# Altium integrated library TI Power Management Special Function.IntLib: 97 symbols (part 6 of 7)
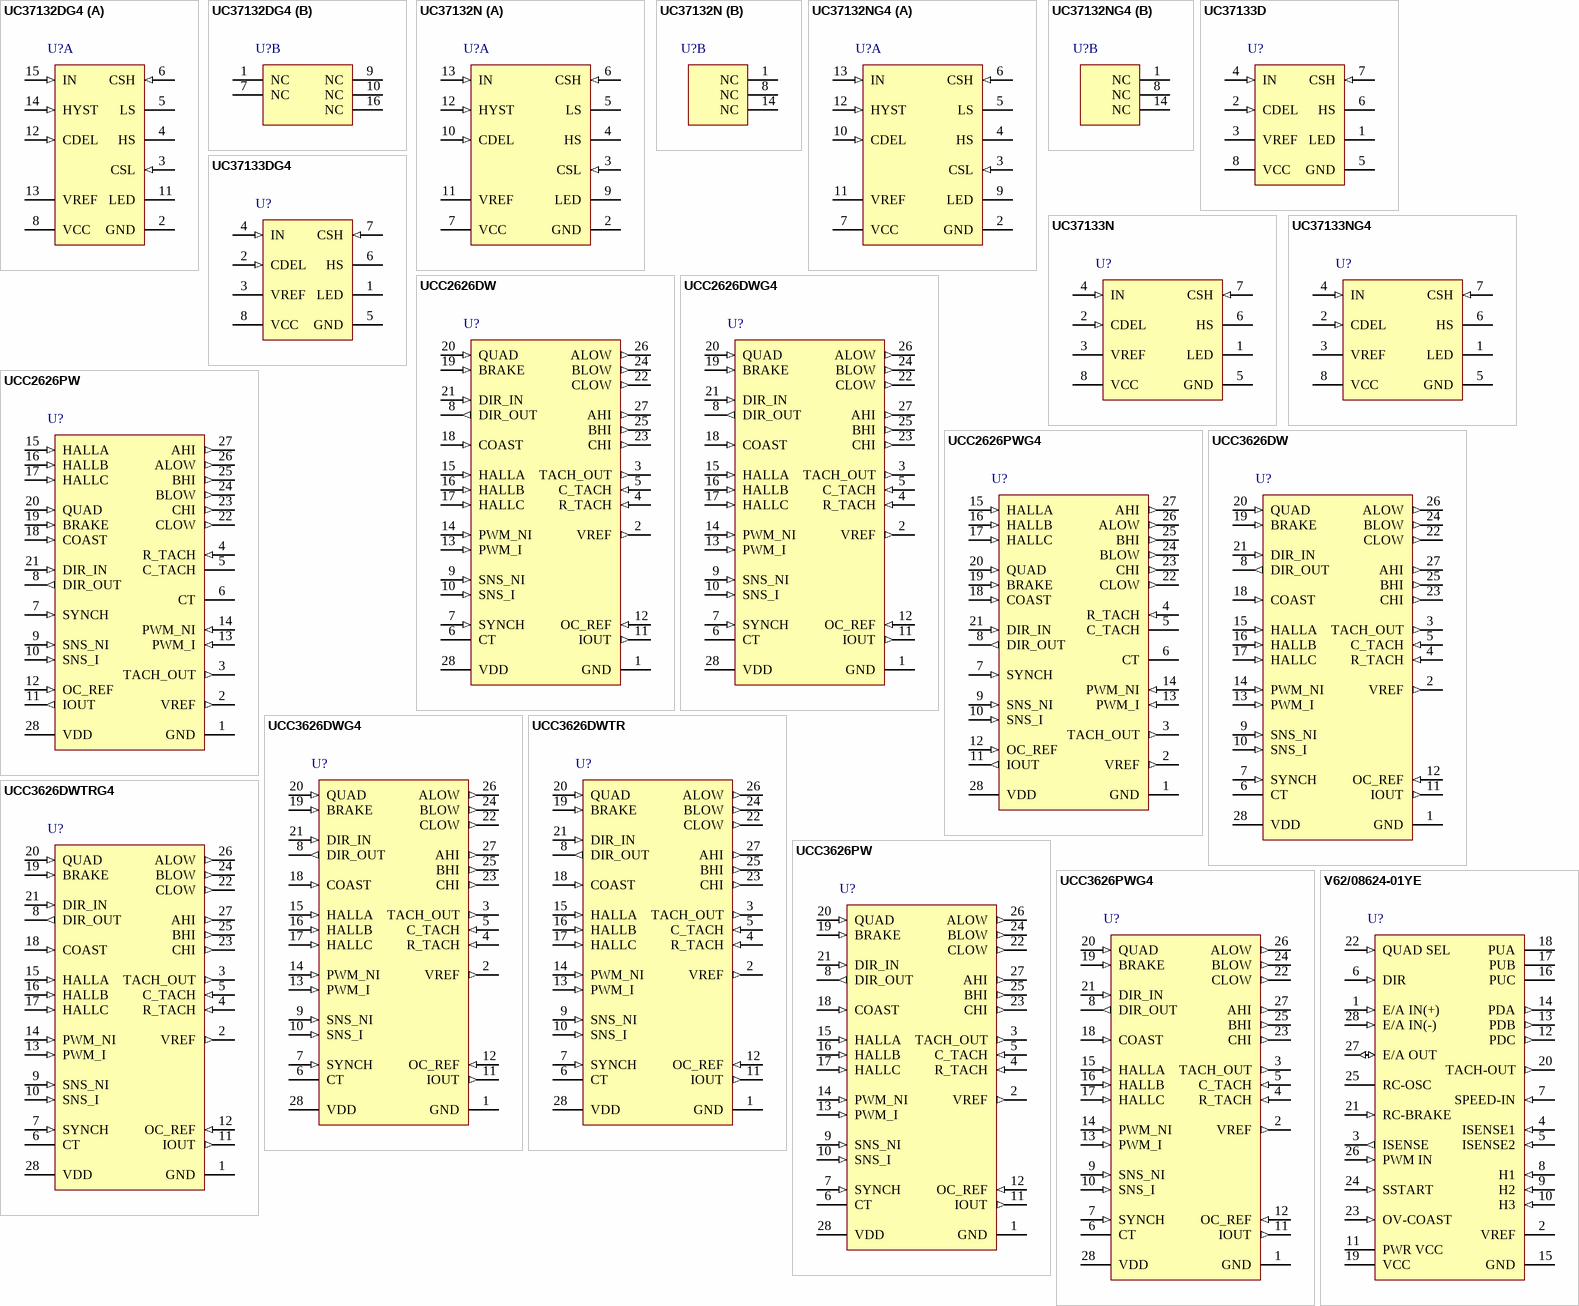
[diagram p8: symbols UC37132DG4 to V62/08624-01YE]

## UC37133N
designator U?
High Side Smart Power Switch, 8 to 65 V, 0.7 A Peak Output Current, 0 to 70 degC, 8-pin PDIP (P), Green (RoHS & no Sb/Br); Manufacturer: Texas Instruments; PartNumber: UC37133N; Fall Time(ns): 1000; Input Threshold: CMOS, TTL; No. of Outputs: 1; Peak Output Current(A): 0.7; Prop Delay(ns): 3000; Rating: Catalog; VCC(Max)(V): 65; VCC(Min)(V): 8; DatasheetVersion: SLUS340; PackageVersion: revE, Apr-2010; PackageReference: P8; PackageDescription: 8-Pin Plastic Dual-In-Line Package, Row Spacing 7.62 mm, Pitch 2.54 mm; Supplier 1: Digi-Key; Supplier Part Number 1: 296-11252-5-ND; Supplier 2: Newark; Supplier Part Number 2: 77C3207; Supplier 3: Mouser; Supplier Part Number 3: 595-UC37133N; Driver Configuration: High Side; Eco-Plan: Green (RoHS & no Sb/Br); Rise Time(ns): 1000; Mounting Technology: Through Hole; Code_JEDEC: MS-001-BA; ComponentLink1Description: Datasheet; ComponentLink1URL: http://www.ti.com/general/docs/lit/getliterature.tsp?genericPartNumber=UC37133&fileType=pdf
footprint P8 (DIP, 8-Leads, Row Spacing 7.62mm, Pitch 2.54mm, Body 9.6x6.4mm)
pins: 1 LED (oc) "Open collector output intended to drive an LED.This pin is driven low whenever the output is turned off and is externally pulled high when the output is turned on", 2 CDEL (in) "A capacitor connected to this pin is used to program both VCC pulse interruption time and power turn-on delay. The capacitor discharge time corresponds to VCC interruption and the charge time to VCC turn-on delay. The ratio (See Datasheet)", 3 VREF (power) "The 6V regulated reference capable of supplying up to 8mA. The recommended decoupling capacitor is 1nF.", 4 IN (in) "The input to the comparator that detects when the output transistor should be turned on. The input threshold is 3.0V (1/2 VREF) and the input voltage range is 0V to VREF.", 5 GND (power) "The reference point for the internal reference, all thresholds, and the return for the remainder of the device.", 6 HS (power) "The output of the switching transistor in the high side configuration. The emitter of the output transistor is the HS pin which is connected to the load. For the UC37132, the HS pin must be tied to the CSL pin in a low side (See Datasheet)", 7 CSH (in) "This high side current sense pin is used to program the current limit for high side applications by connecting a resistor between VCC and CSH. An over load current is detected when the voltage drop between VCC and CSH (See Datasheet)", 8 VCC (power) "The supply voltage for the chip. Decouple this pin with a good quality ceramic capacitor to ground."

## UC37133NG4
designator U?
High Side Smart Power Switch, 8 to 65 V, 0.7 A Peak Output Current, 0 to 70 degC, 8-pin PDIP (P), Green (RoHS & no Sb/Br); Manufacturer: Texas Instruments; PartNumber: UC37133NG4; Fall Time(ns): 1000; Input Threshold: CMOS, TTL; No. of Outputs: 1; Peak Output Current(A): 0.7; Prop Delay(ns): 3000; Rating: Catalog; VCC(Max)(V): 65; VCC(Min)(V): 8; DatasheetVersion: SLUS340; PackageVersion: revE, Apr-2010; PackageReference: P8; PackageDescription: 8-Pin Plastic Dual-In-Line Package, Row Spacing 7.62 mm, Pitch 2.54 mm; Supplier 1: Digi-Key; Supplier Part Number 1: UC37133NG4-ND; Supplier 2: Newark; Supplier Part Number 2: 81K4519; Supplier 3: Mouser; Supplier Part Number 3: 595-UC37133NG4; Driver Configuration: High Side; Eco-Plan: Green (RoHS & no Sb/Br); Rise Time(ns): 1000; Mounting Technology: Through Hole; Code_JEDEC: MS-001-BA; ComponentLink1Description: Datasheet; ComponentLink1URL: http://www.ti.com/general/docs/lit/getliterature.tsp?genericPartNumber=UC37133&fileType=pdf
footprint P8 (DIP, 8-Leads, Row Spacing 7.62mm, Pitch 2.54mm, Body 9.6x6.4mm)
pins: 1 LED (oc) "Open collector output intended to drive an LED.This pin is driven low whenever the output is turned off and is externally pulled high when the output is turned on", 2 CDEL (in) "A capacitor connected to this pin is used to program both VCC pulse interruption time and power turn-on delay. The capacitor discharge time corresponds to VCC interruption and the charge time to VCC turn-on delay. The ratio (See Datasheet)", 3 VREF (power) "The 6V regulated reference capable of supplying up to 8mA. The recommended decoupling capacitor is 1nF.", 4 IN (in) "The input to the comparator that detects when the output transistor should be turned on. The input threshold is 3.0V (1/2 VREF) and the input voltage range is 0V to VREF.", 5 GND (power) "The reference point for the internal reference, all thresholds, and the return for the remainder of the device.", 6 HS (power) "The output of the switching transistor in the high side configuration. The emitter of the output transistor is the HS pin which is connected to the load. For the UC37132, the HS pin must be tied to the CSL pin in a low side (See Datasheet)", 7 CSH (in) "This high side current sense pin is used to program the current limit for high side applications by connecting a resistor between VCC and CSH. An over load current is detected when the voltage drop between VCC and CSH (See Datasheet)", 8 VCC (power) "The supply voltage for the chip. Decouple this pin with a good quality ceramic capacitor to ground."

## UCC2626DW
designator U?
Brushless DC Motor Controller, 14.5 V Operating Supply, -40 to 85 degC, 28-pin SOIC (DW), Green (RoHS & no Sb/Br); Manufacturer: Texas Instruments; PartNumber: UCC2626DW; Brushless DC Motor Control: TRUE; Operating Supply Current(mA): 3; Operating Supply(Max)(V): 14.5; Operating Supply(Min)(V): 11; Peak Output Current(A): 0.1; SubFamily: Motion/Motor Control; DatasheetVersion: SLUS318B; PackageVersion: revG, Jan-2011; PackageReference: DW28; PackageDescription: 28-Pin Plastic Small Outline Integrated Circuit, 17.9 x 7.5 mm, Pitch 1.27 mm Pitch; Supplier 1: Digi-Key; Supplier Part Number 1: 296-34747-5-ND; Supplier 2: Newark; Supplier Part Number 2: 77C1958; Supplier 3: Mouser; Supplier Part Number 3: 595-UCC2626DW; Current-Limited: TRUE; Diff Curr Sense Amp: TRUE; Eco-Plan: Green (RoHS & no Sb/Br); Switching Control: TRUE; Tachometer: TRUE; Mounting Technology: Surface Mount; Code_JEDEC: MS-013-AE; ComponentLink1Description: Datasheet; ComponentLink1URL: http://www.ti.com/general/docs/lit/getliterature.tsp?genericPartNumber=UCC2626&fileType=pdf
footprint DW28_N (SOIC, 28-Leads, Body 17.9x7.5mm, Pitch 1.27mm, IPC Medium Density)
footprint DW28_L (SOIC, 28-Leads, Body 17.9x7.5mm, Pitch 1.27mm, IPC High Density)
footprint DW28_M (SOIC, 28-Leads, Body 17.9x7.5mm, Pitch 1.27mm, IPC Low Density)
pins: 1 GND (power) "GND is the reference ground for all functions of the part. Bypass and timing capacitors should be terminated as close as possible to this point.", 2 VREF (out) "VREF is a 5-V, 2% trimmed reference output with 5 mA of maximum available output current. This pin should be bypassed to ground with a ceramic capacitor with a value of at least 0.1 µF.", 3 TACH_OUT (out) "TACH_OUT is the output of a monostable triggered by a change in the commutation state, thus providing a variable duty cycle, frequency output. The on time of the monostable is set by the timing capacitor connected to C_TACH. (See Datasheet)", 4 R_TACH (in) "A resistor connected between R_TACH and ground programs the current for both the oscillator and tachometer.", 5 C_TACH (in) "A timing capacitor is connected between this pin and ground to set the width of the TACH_OUT pulse. The capacitor is charged with a current set by the resistor on pin R_TACH .", 6 CT "This pin is used in conjunction with the R_TACH pin to set the frequency of the oscillator. A timing capacitor is normally connected between this point and ground and is alternately charged and discharged between 2.5 V and 7.(See Datasheet)", 7 SYNCH (in) "The SYNCH input is used to synchronize the PWM oscillator with an external digital clock. When using the SYNCH feature, a resistor equal to R_TACH must be placed in parallel with CT. When not using the SYNCH feature, SYNCH (See Datasheet)", 8 DIR_OUT (out) "DIR_OUT represents the actual direction of the rotor as decoded from the HALLA, HALLB, and HALLC inputs. For any valid combination of HALLA, HALLB, and HALLC inputs there are two valid transitions; one of which translates to (See Datasheet)", 9 SNS_NI (in) "These inputs are the noninverting and inverting inputs to the current sense amplifier, respectively. The integrated amplifier is configured for a gain of five. An absolute value function is also incorporated into the output (See Datasheet)", 10 SNS_I (in) "These inputs are the noninverting and inverting inputs to the current sense amplifier, respectively. The integrated amplifier is configured for a gain of five. An absolute value function is also incorporated into the output (See Datasheet)", 11 IOUT (out) "IOUT represents the output of the current sense and absolute value amplifiers. The output signal appearing is a representation of the following expression: This output can be used to close a current control loop as well as (See Datasheet)", 12 OC_REF (in) "OC_REF is an analog input which sets the trip voltage of the overcurrent comparator. The sense input of the comparator is internally connected to the output of the current sense amplifier and absolute value circuit.", 13 PWM_I (in) "PWM_I is the inverting input to the PWM comparator.", 14 PWM_NI (in) "PWM_NI is the noninverting input to the PWM comparator.", 15 HALLA (in) "These three inputs are designed to accept rotor position information positioned 120degrees apart. For specific decode information reference Table I. These inputs should be externally pulled up to VREF or another appropriate (See Datasheet)", 16 HALLB (in) "These three inputs are designed to accept rotor position information positioned 120degrees apart. For specific decode information reference Table I. These inputs should be externally pulled up to VREF or another appropriate (See Datasheet)", 17 HALLC (in) "These three inputs are designed to accept rotor position information positioned 120degrees apart. For specific decode information reference Table I. These inputs should be externally pulled up to VREF or another appropriate (See Datasheet)", 18 COAST (in) "The COAST input consists of a hysteretic comparator which disables the outputs. The input is useful in implementing an overvoltage bus clamp in four-quadrant applications. The outputs are disabled when the input is above 1.(See Datasheet)", 19 BRAKE (in) "BRAKE is a digital input which causes the device to enter brake mode. In brake mode all three high-side outputs (AHI, BHI & CHI) are turned off, while all three lowside outputs (ALOW ,BLOW, CLOW) are turned on. During brake (See Datasheet)", 20 QUAD (in) "The QUAD input selects between two-quadrant operation (QUAD = 0) and four-quadrant operation (QUAD = 1) . When in two-quadrant mode, only the low-side devices are effected by the output of the PWM comparator. In (See Datasheet)", 21 DIR_IN (in) "DIR_IN is a digital input which determines the order in which the HALLA, HALLB, and HALLC inputs are decoded. For specific decode information reference Table I.", 22 CLOW (out) "Digital outputs used to control the low-side switches in a three-phase inverter. For specific decoding information reference Table I.", 23 CHI (out) "Digital outputs used to control the high-side switches in a three-phase inverter. For specific decoding information reference Table I.", 24 BLOW (out) "Digital outputs used to control the low-side switches in a three-phase inverter. For specific decoding information reference Table I.", 25 BHI (out) "Digital outputs used to control the high-side switches in a three-phase inverter. For specific decoding information reference Table I.", 26 ALOW (out) "Digital outputs used to control the low-side switches in a three-phase inverter. For specific decoding information reference Table I.", 27 AHI (out) "Digital outputs used to control the high-side switches in a three-phase inverter. For specific decoding information reference Table I.", 28 VDD (power) "VDD is the input supply connection for this device. Undervoltage lockout keeps the outputs off for inputs below 10.5 V. The input should be bypassed with a 0.1-µF ceramic capacitor, minimum."

## UCC2626DWG4
designator U?
Brushless DC Motor Controller, 14.5 V Operating Supply, -40 to 85 degC, 28-pin SOIC (DW), Green (RoHS & no Sb/Br); Manufacturer: Texas Instruments; PartNumber: UCC2626DWG4; Brushless DC Motor Control: TRUE; Operating Supply Current(mA): 3; Operating Supply(Max)(V): 14.5; Operating Supply(Min)(V): 11; Peak Output Current(A): 0.1; SubFamily: Motion/Motor Control; DatasheetVersion: SLUS318B; PackageVersion: revG, Jan-2011; PackageReference: DW28; PackageDescription: 28-Pin Plastic Small Outline Integrated Circuit, 17.9 x 7.5 mm, Pitch 1.27 mm Pitch; Supplier 1: Digi-Key; Supplier Part Number 1: UCC2626DWG4-ND; Supplier 2: Newark; Supplier Part Number 2: 54K1966; Supplier 3: Mouser; Supplier Part Number 3: 595-UCC2626DWG4; Current-Limited: TRUE; Diff Curr Sense Amp: TRUE; Eco-Plan: Green (RoHS & no Sb/Br); Switching Control: TRUE; Tachometer: TRUE; Mounting Technology: Surface Mount; Code_JEDEC: MS-013-AE; ComponentLink1Description: Datasheet; ComponentLink1URL: http://www.ti.com/general/docs/lit/getliterature.tsp?genericPartNumber=UCC2626&fileType=pdf
footprint DW28_N (SOIC, 28-Leads, Body 17.9x7.5mm, Pitch 1.27mm, IPC Medium Density)
footprint DW28_L (SOIC, 28-Leads, Body 17.9x7.5mm, Pitch 1.27mm, IPC High Density)
footprint DW28_M (SOIC, 28-Leads, Body 17.9x7.5mm, Pitch 1.27mm, IPC Low Density)
pins: 1 GND (power) "GND is the reference ground for all functions of the part. Bypass and timing capacitors should be terminated as close as possible to this point.", 2 VREF (out) "VREF is a 5-V, 2% trimmed reference output with 5 mA of maximum available output current. This pin should be bypassed to ground with a ceramic capacitor with a value of at least 0.1 µF.", 3 TACH_OUT (out) "TACH_OUT is the output of a monostable triggered by a change in the commutation state, thus providing a variable duty cycle, frequency output. The on time of the monostable is set by the timing capacitor connected to C_TACH. (See Datasheet)", 4 R_TACH (in) "A resistor connected between R_TACH and ground programs the current for both the oscillator and tachometer.", 5 C_TACH (in) "A timing capacitor is connected between this pin and ground to set the width of the TACH_OUT pulse. The capacitor is charged with a current set by the resistor on pin R_TACH .", 6 CT "This pin is used in conjunction with the R_TACH pin to set the frequency of the oscillator. A timing capacitor is normally connected between this point and ground and is alternately charged and discharged between 2.5 V and 7.(See Datasheet)", 7 SYNCH (in) "The SYNCH input is used to synchronize the PWM oscillator with an external digital clock. When using the SYNCH feature, a resistor equal to R_TACH must be placed in parallel with CT. When not using the SYNCH feature, SYNCH (See Datasheet)", 8 DIR_OUT (out) "DIR_OUT represents the actual direction of the rotor as decoded from the HALLA, HALLB, and HALLC inputs. For any valid combination of HALLA, HALLB, and HALLC inputs there are two valid transitions; one of which translates to (See Datasheet)", 9 SNS_NI (in) "These inputs are the noninverting and inverting inputs to the current sense amplifier, respectively. The integrated amplifier is configured for a gain of five. An absolute value function is also incorporated into the output (See Datasheet)", 10 SNS_I (in) "These inputs are the noninverting and inverting inputs to the current sense amplifier, respectively. The integrated amplifier is configured for a gain of five. An absolute value function is also incorporated into the output (See Datasheet)", 11 IOUT (out) "IOUT represents the output of the current sense and absolute value amplifiers. The output signal appearing is a representation of the following expression: This output can be used to close a current control loop as well as (See Datasheet)", 12 OC_REF (in) "OC_REF is an analog input which sets the trip voltage of the overcurrent comparator. The sense input of the comparator is internally connected to the output of the current sense amplifier and absolute value circuit.", 13 PWM_I (in) "PWM_I is the inverting input to the PWM comparator.", 14 PWM_NI (in) "PWM_NI is the noninverting input to the PWM comparator.", 15 HALLA (in) "These three inputs are designed to accept rotor position information positioned 120degrees apart. For specific decode information reference Table I. These inputs should be externally pulled up to VREF or another appropriate (See Datasheet)", 16 HALLB (in) "These three inputs are designed to accept rotor position information positioned 120degrees apart. For specific decode information reference Table I. These inputs should be externally pulled up to VREF or another appropriate (See Datasheet)", 17 HALLC (in) "These three inputs are designed to accept rotor position information positioned 120degrees apart. For specific decode information reference Table I. These inputs should be externally pulled up to VREF or another appropriate (See Datasheet)", 18 COAST (in) "The COAST input consists of a hysteretic comparator which disables the outputs. The input is useful in implementing an overvoltage bus clamp in four-quadrant applications. The outputs are disabled when the input is above 1.(See Datasheet)", 19 BRAKE (in) "BRAKE is a digital input which causes the device to enter brake mode. In brake mode all three high-side outputs (AHI, BHI & CHI) are turned off, while all three lowside outputs (ALOW ,BLOW, CLOW) are turned on. During brake (See Datasheet)", 20 QUAD (in) "The QUAD input selects between two-quadrant operation (QUAD = 0) and four-quadrant operation (QUAD = 1) . When in two-quadrant mode, only the low-side devices are effected by the output of the PWM comparator. In (See Datasheet)", 21 DIR_IN (in) "DIR_IN is a digital input which determines the order in which the HALLA, HALLB, and HALLC inputs are decoded. For specific decode information reference Table I.", 22 CLOW (out) "Digital outputs used to control the low-side switches in a three-phase inverter. For specific decoding information reference Table I.", 23 CHI (out) "Digital outputs used to control the high-side switches in a three-phase inverter. For specific decoding information reference Table I.", 24 BLOW (out) "Digital outputs used to control the low-side switches in a three-phase inverter. For specific decoding information reference Table I.", 25 BHI (out) "Digital outputs used to control the high-side switches in a three-phase inverter. For specific decoding information reference Table I.", 26 ALOW (out) "Digital outputs used to control the low-side switches in a three-phase inverter. For specific decoding information reference Table I.", 27 AHI (out) "Digital outputs used to control the high-side switches in a three-phase inverter. For specific decoding information reference Table I.", 28 VDD (power) "VDD is the input supply connection for this device. Undervoltage lockout keeps the outputs off for inputs below 10.5 V. The input should be bypassed with a 0.1-µF ceramic capacitor, minimum."

## UCC2626PW
designator U?
Brushless DC Motor Controller, 14.5 V Operating Supply, -40 to 85 degC, 28-pin TSSOP (PW), Green (RoHS & no Sb/Br); Manufacturer: Texas Instruments; PartNumber: UCC2626PW; Brushless DC Motor Control: TRUE; Operating Supply Current(mA): 3; Operating Supply(Max)(V): 14.5; Operating Supply(Min)(V): 11; Peak Output Current(A): 0.1; SubFamily: Motion/Motor Control; DatasheetVersion: SLUS318B; PackageVersion: revG, Feb-2011; PackageReference: PW28; PackageDescription: 28-Pin Plastic Thin Small Outline Package 9.7 x 4.4 mm Body ,0.65 mm Pitch; Supplier 1: Digi-Key; Supplier Part Number 1: 296-34748-5-ND; Supplier 2: Newark; Supplier Part Number 2: 77C1960; Supplier 3: Mouser; Supplier Part Number 3: 595-UCC2626PW; Current-Limited: TRUE; Diff Curr Sense Amp: TRUE; Eco-Plan: Green (RoHS & no Sb/Br); Switching Control: TRUE; Tachometer: TRUE; Mounting Technology: Surface Mount; Code_JEDEC: MO-153; ComponentLink1Description: Datasheet; ComponentLink1URL: http://www.ti.com/general/docs/lit/getliterature.tsp?genericPartNumber=UCC2626&fileType=pdf
footprint PW28_N (TSOP, 28-Leads, Body 9.7x4.4mm, Pitch 0.65mm, IPC Medium Density)
footprint PW28_L (TSOP, 28-Leads, Body 9.7x4.4mm, Pitch 0.65mm, IPC High Density)
footprint PW28_M (TSOP, 28-Leads, Body 9.7x4.4mm, Pitch 0.65mm, IPC Low Density)
pins: 1 GND (power) "GND is the reference ground for all functions of the part. Bypass and timing capacitors should be terminated as close as possible to this point.", 2 VREF (out) "VREF is a 5-V, 2% trimmed reference output with 5 mA of maximum available output current. This pin should be bypassed to ground with a ceramic capacitor with a value of at least 0.1 uF.", 3 TACH_OUT (out) "TACH_OUT is the output of a monostable triggered by a change in the commutation state, thus providing a variable duty cycle, frequency output. The on time of the monostable is set by the timing capacitor connected to C_TACH. (See Datasheet)", 4 R_TACH (in) "A resistor connected between R_TACH and ground programs the current for both the oscillator and tachometer.", 5 C_TACH "A timing capacitor is connected between this pin and ground to set the width of the TACH_OUT pulse. The capacitor is charged with a current set by the resistor on pin R_TACH .", 6 CT "This pin is used in conjunction with the R_TACH pin to set the frequency of the oscillator. A timing capacitor is normally connected between this point and ground and is alternately charged and discharged between 2.5 V and 7.(See Datasheet)", 7 SYNCH (in) "The SYNCH input is used to synchronize the PWM oscillator with an external digital clock. When using the SYNCH feature, a resistor equal to R_TACH must be placed in parallel with CT. When not using the SYNCH feature, SYNCH (See Datasheet)", 8 DIR_OUT (out) "DIR_OUT represents the actual direction of the rotor as decoded from the HALLA, HALLB, and HALLC inputs. For any valid combination of HALLA, HALLB, and HALLC inputs there are two valid transitions; one of which translates to (See Datasheet)", 9 SNS_NI (in) "These input are the noninverting and inverting inputs to the current sense amplifier, respectively. The integrated amplifier is configured for a gain of five. An absolute value function is also incorporated into the output (See Datasheet)", 10 SNS_I (in) "These input are the noninverting and inverting inputs to the current sense amplifier, respectively. The integrated amplifier is configured for a gain of five. An absolute value function is also incorporated into the output (See Datasheet)", 11 IOUT (out) "IOUT represents the output of the current sense and absolute value amplifiers. The output signal appearing is a representation of the following expression: IOUT=ABS(ISNS_I-ISNS_NI)*5 This output can be used to close a (See Datasheet)", 12 OC_REF (in) "OC_REF is an analog input which sets the trip voltage of the overcurrent comparator. The sense input of the comparator is internally connected to the output of the current sense amplifier and absolute value circuit.", 13 PWM_I (in) "PWM_I is the inverting input to the PWM comparator.", 14 PWM_NI (in) "PWM_NI is the noninverting input to the PWM comparator.", 15 HALLA (in) "These three input are designed to accept rotor position information positioned 120degrees apart. For specific decode information reference Table I. These inputs should be externally pulled up to VREF or another appropriate (See Datasheet)", 16 HALLB (in) "These three input are designed to accept rotor position information positioned 120degrees apart. For specific decode information reference Table I. These inputs should be externally pulled up to VREF or another appropriate (See Datasheet)", 17 HALLC (in) "These three input are designed to accept rotor position information positioned 120degrees apart. For specific decode information reference Table I. These inputs should be externally pulled up to VREF or another appropriate (See Datasheet)", 18 COAST (in) "The COAST input consists of a hysteretic comparator which disables the outputs. The input is useful in implementing an overvoltage bus clamp in four-quadrant applications. The outputs are disabled when the input is above 1.(See Datasheet)", 19 BRAKE (in) "BRAKE is a digital input which causes the device to enter brake mode. In brake mode all three highside outputs (AHI, BHI & CHI) are turned off, while all three lowside outputs (ALOW, BLOW, CLOW) are turned on. During brake (See Datasheet)", 20 QUAD (in) "The QUAD input selects between two-quadrant operation (QUAD = 0) and four-quadrant operation (QUAD = 1) . When in two-quadrant mode, only the low-side devices are effected by the output of the PWM comparator. In (See Datasheet)", 21 DIR_IN (in) "DIR_IN is a digital input which determines the order in which the HALLA, HALLB, and HALLC inputs are decoded. For specific decode information reference Table I.", 22 CLOW (out) "Digital output used to control the low-side switches in a three-phase inverter. For specific decoding information reference Table I.", 23 CHI (out) "Digital output used to control the high-side switches in a three-phase inverter. For specific decoding information reference Table I.", 24 BLOW (out) "Digital output used to control the low-side switches in a three-phase inverter. For specific decoding information reference Table I.", 25 BHI (out) "Digital output used to control the high-side switches in a three-phase inverter. For specific decoding information reference Table I.", 26 ALOW (out) "Digital output used to control the low-side switches in a three-phase inverter. For specific decoding information reference Table I.", 27 AHI (out) "Digital output used to control the high-side switches in a three-phase inverter. For specific decoding information reference Table I.", 28 VDD (power) "VDD is the input supply connection for this device. Undervoltage lockout keeps the outputs off for inputs below 10.5 V. The input should be bypassed with a 0.1-uF ceramic capacitor, minimum."

## UCC2626PWG4
designator U?
Brushless DC Motor Controller, 14.5 V Operating Supply, -40 to 85 degC, 28-pin TSSOP (PW), Green (RoHS & no Sb/Br); Manufacturer: Texas Instruments; PartNumber: UCC2626PWG4; Brushless DC Motor Control: TRUE; Operating Supply Current(mA): 3; Operating Supply(Max)(V): 14.5; Operating Supply(Min)(V): 11; Peak Output Current(A): 0.1; SubFamily: Motion/Motor Control; DatasheetVersion: SLUS318B; PackageVersion: revG, Feb-2011; PackageReference: PW28; PackageDescription: 28-Pin Plastic Thin Small Outline Package 9.7 x 4.4 mm Body ,0.65 mm Pitch; Supplier 1: Digi-Key; Supplier Part Number 1: UCC2626PWG4-ND; Supplier 2: Newark; Supplier Part Number 2: 70K5861; Supplier 3: Mouser; Supplier Part Number 3: 595-UCC2626PWG4; Current-Limited: TRUE; Diff Curr Sense Amp: TRUE; Eco-Plan: Green (RoHS & no Sb/Br); Switching Control: TRUE; Tachometer: TRUE; Mounting Technology: Surface Mount; Code_JEDEC: MO-153; ComponentLink1Description: Datasheet; ComponentLink1URL: http://www.ti.com/general/docs/lit/getliterature.tsp?genericPartNumber=UCC2626&fileType=pdf
footprint PW28_N (TSOP, 28-Leads, Body 9.7x4.4mm, Pitch 0.65mm, IPC Medium Density)
footprint PW28_L (TSOP, 28-Leads, Body 9.7x4.4mm, Pitch 0.65mm, IPC High Density)
footprint PW28_M (TSOP, 28-Leads, Body 9.7x4.4mm, Pitch 0.65mm, IPC Low Density)
pins: 1 GND (power) "GND is the reference ground for all functions of the part. Bypass and timing capacitors should be terminated as close as possible to this point.", 2 VREF (out) "VREF is a 5-V, 2% trimmed reference output with 5 mA of maximum available output current. This pin should be bypassed to ground with a ceramic capacitor with a value of at least 0.1 uF.", 3 TACH_OUT (out) "TACH_OUT is the output of a monostable triggered by a change in the commutation state, thus providing a variable duty cycle, frequency output. The on time of the monostable is set by the timing capacitor connected to C_TACH. (See Datasheet)", 4 R_TACH (in) "A resistor connected between R_TACH and ground programs the current for both the oscillator and tachometer.", 5 C_TACH "A timing capacitor is connected between this pin and ground to set the width of the TACH_OUT pulse. The capacitor is charged with a current set by the resistor on pin R_TACH .", 6 CT "This pin is used in conjunction with the R_TACH pin to set the frequency of the oscillator. A timing capacitor is normally connected between this point and ground and is alternately charged and discharged between 2.5 V and 7.(See Datasheet)", 7 SYNCH (in) "The SYNCH input is used to synchronize the PWM oscillator with an external digital clock. When using the SYNCH feature, a resistor equal to R_TACH must be placed in parallel with CT. When not using the SYNCH feature, SYNCH (See Datasheet)", 8 DIR_OUT (out) "DIR_OUT represents the actual direction of the rotor as decoded from the HALLA, HALLB, and HALLC inputs. For any valid combination of HALLA, HALLB, and HALLC inputs there are two valid transitions; one of which translates to (See Datasheet)", 9 SNS_NI (in) "These input are the noninverting and inverting inputs to the current sense amplifier, respectively. The integrated amplifier is configured for a gain of five. An absolute value function is also incorporated into the output (See Datasheet)", 10 SNS_I (in) "These input are the noninverting and inverting inputs to the current sense amplifier, respectively. The integrated amplifier is configured for a gain of five. An absolute value function is also incorporated into the output (See Datasheet)", 11 IOUT (out) "IOUT represents the output of the current sense and absolute value amplifiers. The output signal appearing is a representation of the following expression: IOUT=ABS(ISNS_I-ISNS_NI)*5 This output can be used to close a (See Datasheet)", 12 OC_REF (in) "OC_REF is an analog input which sets the trip voltage of the overcurrent comparator. The sense input of the comparator is internally connected to the output of the current sense amplifier and absolute value circuit.", 13 PWM_I (in) "PWM_I is the inverting input to the PWM comparator.", 14 PWM_NI (in) "PWM_NI is the noninverting input to the PWM comparator.", 15 HALLA (in) "These three input are designed to accept rotor position information positioned 120degrees apart. For specific decode information reference Table I. These inputs should be externally pulled up to VREF or another appropriate (See Datasheet)", 16 HALLB (in) "These three input are designed to accept rotor position information positioned 120degrees apart. For specific decode information reference Table I. These inputs should be externally pulled up to VREF or another appropriate (See Datasheet)", 17 HALLC (in) "These three input are designed to accept rotor position information positioned 120degrees apart. For specific decode information reference Table I. These inputs should be externally pulled up to VREF or another appropriate (See Datasheet)", 18 COAST (in) "The COAST input consists of a hysteretic comparator which disables the outputs. The input is useful in implementing an overvoltage bus clamp in four-quadrant applications. The outputs are disabled when the input is above 1.(See Datasheet)", 19 BRAKE (in) "BRAKE is a digital input which causes the device to enter brake mode. In brake mode all three highside outputs (AHI, BHI & CHI) are turned off, while all three lowside outputs (ALOW, BLOW, CLOW) are turned on. During brake (See Datasheet)", 20 QUAD (in) "The QUAD input selects between two-quadrant operation (QUAD = 0) and four-quadrant operation (QUAD = 1) . When in two-quadrant mode, only the low-side devices are effected by the output of the PWM comparator. In (See Datasheet)", 21 DIR_IN (in) "DIR_IN is a digital input which determines the order in which the HALLA, HALLB, and HALLC inputs are decoded. For specific decode information reference Table I.", 22 CLOW (out) "Digital output used to control the low-side switches in a three-phase inverter. For specific decoding information reference Table I.", 23 CHI (out) "Digital output used to control the high-side switches in a three-phase inverter. For specific decoding information reference Table I.", 24 BLOW (out) "Digital output used to control the low-side switches in a three-phase inverter. For specific decoding information reference Table I.", 25 BHI (out) "Digital output used to control the high-side switches in a three-phase inverter. For specific decoding information reference Table I.", 26 ALOW (out) "Digital output used to control the low-side switches in a three-phase inverter. For specific decoding information reference Table I.", 27 AHI (out) "Digital output used to control the high-side switches in a three-phase inverter. For specific decoding information reference Table I.", 28 VDD (power) "VDD is the input supply connection for this device. Undervoltage lockout keeps the outputs off for inputs below 10.5 V. The input should be bypassed with a 0.1-uF ceramic capacitor, minimum."

## UCC3626DW
designator U?
Brushless DC Motor Controller, 14.5 V Operating Supply, 0 to 70 degC, 28-pin SOIC (DW), Green (RoHS & no Sb/Br); Manufacturer: Texas Instruments; PartNumber: UCC3626DW; Brushless DC Motor Control: TRUE; Operating Supply Current(mA): 3; Operating Supply(Max)(V): 14.5; Operating Supply(Min)(V): 11; Peak Output Current(A): 0.1; SubFamily: Motion/Motor Control; DatasheetVersion: SLUS318B; PackageVersion: revG, Jan-2011; PackageReference: DW28; PackageDescription: 28-Pin Plastic Small Outline Integrated Circuit, 17.9 x 7.5 mm, Pitch 1.27 mm Pitch; Supplier 1: Digi-Key; Supplier Part Number 1: 296-11452-5-ND; Supplier 2: Newark; Supplier Part Number 2: 77C2307; Supplier 3: Mouser; Supplier Part Number 3: 595-UCC3626DW; Current-Limited: TRUE; Diff Curr Sense Amp: TRUE; Eco-Plan: Green (RoHS & no Sb/Br); Switching Control: TRUE; Tachometer: TRUE; Mounting Technology: Surface Mount; Code_JEDEC: MS-013-AE; ComponentLink1Description: Datasheet; ComponentLink1URL: http://www.ti.com/general/docs/lit/getliterature.tsp?genericPartNumber=UCC3626&fileType=pdf
footprint DW28_N (SOIC, 28-Leads, Body 17.9x7.5mm, Pitch 1.27mm, IPC Medium Density)
footprint DW28_L (SOIC, 28-Leads, Body 17.9x7.5mm, Pitch 1.27mm, IPC High Density)
footprint DW28_M (SOIC, 28-Leads, Body 17.9x7.5mm, Pitch 1.27mm, IPC Low Density)
pins: 1 GND (power) "GND is the reference ground for all functions of the part. Bypass and timing capacitors should be terminated as close as possible to this point.", 2 VREF (out) "VREF is a 5-V, 2% trimmed reference output with 5 mA of maximum available output current. This pin should be bypassed to ground with a ceramic capacitor with a value of at least 0.1 µF.", 3 TACH_OUT (out) "TACH_OUT is the output of a monostable triggered by a change in the commutation state, thus providing a variable duty cycle, frequency output. The on time of the monostable is set by the timing capacitor connected to C_TACH. (See Datasheet)", 4 R_TACH (in) "A resistor connected between R_TACH and ground programs the current for both the oscillator and tachometer.", 5 C_TACH (in) "A timing capacitor is connected between this pin and ground to set the width of the TACH_OUT pulse. The capacitor is charged with a current set by the resistor on pin R_TACH .", 6 CT "This pin is used in conjunction with the R_TACH pin to set the frequency of the oscillator. A timing capacitor is normally connected between this point and ground and is alternately charged and discharged between 2.5 V and 7.(See Datasheet)", 7 SYNCH (in) "The SYNCH input is used to synchronize the PWM oscillator with an external digital clock. When using the SYNCH feature, a resistor equal to R_TACH must be placed in parallel with CT. When not using the SYNCH feature, SYNCH (See Datasheet)", 8 DIR_OUT (out) "DIR_OUT represents the actual direction of the rotor as decoded from the HALLA, HALLB, and HALLC inputs. For any valid combination of HALLA, HALLB, and HALLC inputs there are two valid transitions; one of which translates to (See Datasheet)", 9 SNS_NI (in) "These inputs are the noninverting and inverting inputs to the current sense amplifier, respectively. The integrated amplifier is configured for a gain of five. An absolute value function is also incorporated into the output (See Datasheet)", 10 SNS_I (in) "These inputs are the noninverting and inverting inputs to the current sense amplifier, respectively. The integrated amplifier is configured for a gain of five. An absolute value function is also incorporated into the output (See Datasheet)", 11 IOUT (out) "IOUT represents the output of the current sense and absolute value amplifiers. The output signal appearing is a representation of the following expression: This output can be used to close a current control loop as well as (See Datasheet)", 12 OC_REF (in) "OC_REF is an analog input which sets the trip voltage of the overcurrent comparator. The sense input of the comparator is internally connected to the output of the current sense amplifier and absolute value circuit.", 13 PWM_I (in) "PWM_I is the inverting input to the PWM comparator.", 14 PWM_NI (in) "PWM_NI is the noninverting input to the PWM comparator.", 15 HALLA (in) "These three inputs are designed to accept rotor position information positioned 120degrees apart. For specific decode information reference Table I. These inputs should be externally pulled up to VREF or another appropriate (See Datasheet)", 16 HALLB (in) "These three inputs are designed to accept rotor position information positioned 120degrees apart. For specific decode information reference Table I. These inputs should be externally pulled up to VREF or another appropriate (See Datasheet)", 17 HALLC (in) "These three inputs are designed to accept rotor position information positioned 120degrees apart. For specific decode information reference Table I. These inputs should be externally pulled up to VREF or another appropriate (See Datasheet)", 18 COAST (in) "The COAST input consists of a hysteretic comparator which disables the outputs. The input is useful in implementing an overvoltage bus clamp in four-quadrant applications. The outputs are disabled when the input is above 1.(See Datasheet)", 19 BRAKE (in) "BRAKE is a digital input which causes the device to enter brake mode. In brake mode all three high-side outputs (AHI, BHI & CHI) are turned off, while all three lowside outputs (ALOW ,BLOW, CLOW) are turned on. During brake (See Datasheet)", 20 QUAD (in) "The QUAD input selects between two-quadrant operation (QUAD = 0) and four-quadrant operation (QUAD = 1) . When in two-quadrant mode, only the low-side devices are effected by the output of the PWM comparator. In (See Datasheet)", 21 DIR_IN (in) "DIR_IN is a digital input which determines the order in which the HALLA, HALLB, and HALLC inputs are decoded. For specific decode information reference Table I.", 22 CLOW (out) "Digital outputs used to control the low-side switches in a three-phase inverter. For specific decoding information reference Table I.", 23 CHI (out) "Digital outputs used to control the high-side switches in a three-phase inverter. For specific decoding information reference Table I.", 24 BLOW (out) "Digital outputs used to control the low-side switches in a three-phase inverter. For specific decoding information reference Table I.", 25 BHI (out) "Digital outputs used to control the high-side switches in a three-phase inverter. For specific decoding information reference Table I.", 26 ALOW (out) "Digital outputs used to control the low-side switches in a three-phase inverter. For specific decoding information reference Table I.", 27 AHI (out) "Digital outputs used to control the high-side switches in a three-phase inverter. For specific decoding information reference Table I.", 28 VDD (power) "VDD is the input supply connection for this device. Undervoltage lockout keeps the outputs off for inputs below 10.5 V. The input should be bypassed with a 0.1-µF ceramic capacitor, minimum."

## UCC3626DWG4
designator U?
Brushless DC Motor Controller, 14.5 V Operating Supply, 0 to 70 degC, 28-pin SOIC (DW), Green (RoHS & no Sb/Br); Manufacturer: Texas Instruments; PartNumber: UCC3626DWG4; Brushless DC Motor Control: TRUE; Operating Supply Current(mA): 3; Operating Supply(Max)(V): 14.5; Operating Supply(Min)(V): 11; Peak Output Current(A): 0.1; SubFamily: Motion/Motor Control; DatasheetVersion: SLUS318B; PackageVersion: revG, Jan-2011; PackageReference: DW28; PackageDescription: 28-Pin Plastic Small Outline Integrated Circuit, 17.9 x 7.5 mm, Pitch 1.27 mm Pitch; Supplier 1: Digi-Key; Supplier Part Number 1: UCC3626DWG4-ND; Supplier 2: Newark; Supplier Part Number 2: 34M0252; Supplier 3: Mouser; Supplier Part Number 3: 595-UCC3626DWG4; Current-Limited: TRUE; Diff Curr Sense Amp: TRUE; Eco-Plan: Green (RoHS & no Sb/Br); Switching Control: TRUE; Tachometer: TRUE; Mounting Technology: Surface Mount; Code_JEDEC: MS-013-AE; ComponentLink1Description: Datasheet; ComponentLink1URL: http://www.ti.com/general/docs/lit/getliterature.tsp?genericPartNumber=UCC3626&fileType=pdf
footprint DW28_N (SOIC, 28-Leads, Body 17.9x7.5mm, Pitch 1.27mm, IPC Medium Density)
footprint DW28_L (SOIC, 28-Leads, Body 17.9x7.5mm, Pitch 1.27mm, IPC High Density)
footprint DW28_M (SOIC, 28-Leads, Body 17.9x7.5mm, Pitch 1.27mm, IPC Low Density)
pins: 1 GND (power) "GND is the reference ground for all functions of the part. Bypass and timing capacitors should be terminated as close as possible to this point.", 2 VREF (out) "VREF is a 5-V, 2% trimmed reference output with 5 mA of maximum available output current. This pin should be bypassed to ground with a ceramic capacitor with a value of at least 0.1 µF.", 3 TACH_OUT (out) "TACH_OUT is the output of a monostable triggered by a change in the commutation state, thus providing a variable duty cycle, frequency output. The on time of the monostable is set by the timing capacitor connected to C_TACH. (See Datasheet)", 4 R_TACH (in) "A resistor connected between R_TACH and ground programs the current for both the oscillator and tachometer.", 5 C_TACH (in) "A timing capacitor is connected between this pin and ground to set the width of the TACH_OUT pulse. The capacitor is charged with a current set by the resistor on pin R_TACH .", 6 CT "This pin is used in conjunction with the R_TACH pin to set the frequency of the oscillator. A timing capacitor is normally connected between this point and ground and is alternately charged and discharged between 2.5 V and 7.(See Datasheet)", 7 SYNCH (in) "The SYNCH input is used to synchronize the PWM oscillator with an external digital clock. When using the SYNCH feature, a resistor equal to R_TACH must be placed in parallel with CT. When not using the SYNCH feature, SYNCH (See Datasheet)", 8 DIR_OUT (out) "DIR_OUT represents the actual direction of the rotor as decoded from the HALLA, HALLB, and HALLC inputs. For any valid combination of HALLA, HALLB, and HALLC inputs there are two valid transitions; one of which translates to (See Datasheet)", 9 SNS_NI (in) "These inputs are the noninverting and inverting inputs to the current sense amplifier, respectively. The integrated amplifier is configured for a gain of five. An absolute value function is also incorporated into the output (See Datasheet)", 10 SNS_I (in) "These inputs are the noninverting and inverting inputs to the current sense amplifier, respectively. The integrated amplifier is configured for a gain of five. An absolute value function is also incorporated into the output (See Datasheet)", 11 IOUT (out) "IOUT represents the output of the current sense and absolute value amplifiers. The output signal appearing is a representation of the following expression: This output can be used to close a current control loop as well as (See Datasheet)", 12 OC_REF (in) "OC_REF is an analog input which sets the trip voltage of the overcurrent comparator. The sense input of the comparator is internally connected to the output of the current sense amplifier and absolute value circuit.", 13 PWM_I (in) "PWM_I is the inverting input to the PWM comparator.", 14 PWM_NI (in) "PWM_NI is the noninverting input to the PWM comparator.", 15 HALLA (in) "These three inputs are designed to accept rotor position information positioned 120degrees apart. For specific decode information reference Table I. These inputs should be externally pulled up to VREF or another appropriate (See Datasheet)", 16 HALLB (in) "These three inputs are designed to accept rotor position information positioned 120degrees apart. For specific decode information reference Table I. These inputs should be externally pulled up to VREF or another appropriate (See Datasheet)", 17 HALLC (in) "These three inputs are designed to accept rotor position information positioned 120degrees apart. For specific decode information reference Table I. These inputs should be externally pulled up to VREF or another appropriate (See Datasheet)", 18 COAST (in) "The COAST input consists of a hysteretic comparator which disables the outputs. The input is useful in implementing an overvoltage bus clamp in four-quadrant applications. The outputs are disabled when the input is above 1.(See Datasheet)", 19 BRAKE (in) "BRAKE is a digital input which causes the device to enter brake mode. In brake mode all three high-side outputs (AHI, BHI & CHI) are turned off, while all three lowside outputs (ALOW ,BLOW, CLOW) are turned on. During brake (See Datasheet)", 20 QUAD (in) "The QUAD input selects between two-quadrant operation (QUAD = 0) and four-quadrant operation (QUAD = 1) . When in two-quadrant mode, only the low-side devices are effected by the output of the PWM comparator. In (See Datasheet)", 21 DIR_IN (in) "DIR_IN is a digital input which determines the order in which the HALLA, HALLB, and HALLC inputs are decoded. For specific decode information reference Table I.", 22 CLOW (out) "Digital outputs used to control the low-side switches in a three-phase inverter. For specific decoding information reference Table I.", 23 CHI (out) "Digital outputs used to control the high-side switches in a three-phase inverter. For specific decoding information reference Table I.", 24 BLOW (out) "Digital outputs used to control the low-side switches in a three-phase inverter. For specific decoding information reference Table I.", 25 BHI (out) "Digital outputs used to control the high-side switches in a three-phase inverter. For specific decoding information reference Table I.", 26 ALOW (out) "Digital outputs used to control the low-side switches in a three-phase inverter. For specific decoding information reference Table I.", 27 AHI (out) "Digital outputs used to control the high-side switches in a three-phase inverter. For specific decoding information reference Table I.", 28 VDD (power) "VDD is the input supply connection for this device. Undervoltage lockout keeps the outputs off for inputs below 10.5 V. The input should be bypassed with a 0.1-µF ceramic capacitor, minimum."